# EAGLE library part MICROBIT-EDGE-CONNECTOR (library pimoroni-connectors)
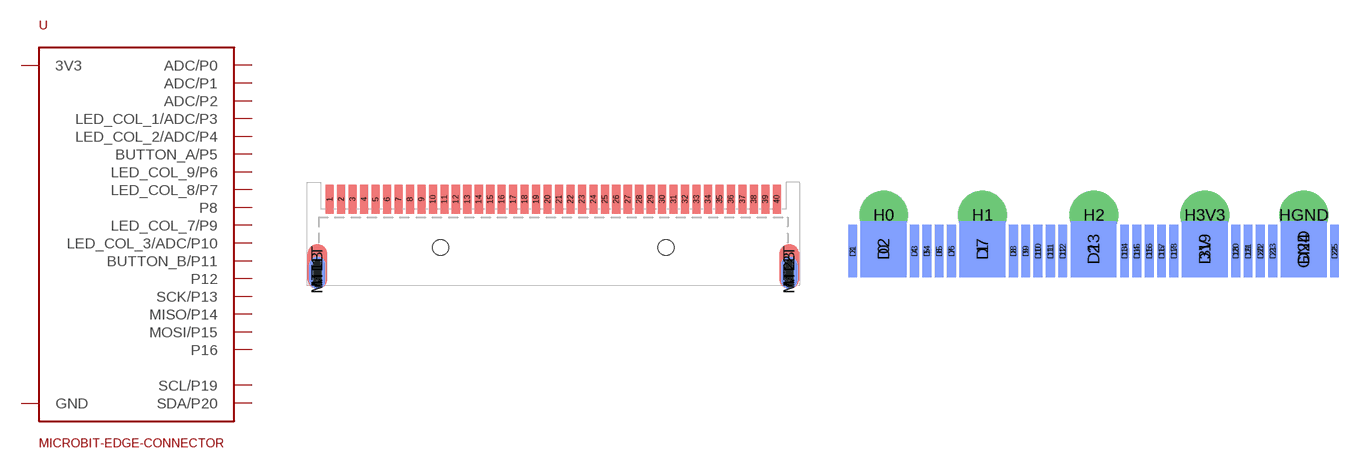
[diagram p13: symbol with the pads of MICROBIT-RIGHT-ANGLE-SMT; footprints MICROBIT-RIGHT-ANGLE-SMT, MICROBIT-EDGE-PCB]

Designator prefix -

## MICROBIT-EDGE-CONNECTORRA-SMD  [MICROBIT-RIGHT-ANGLE-SMT]
1  GND
2  GND
3  GND
4  GND
5  GND
6  GND
7  SDA/P20
8  SCL/P19
9  3V3
10  3V3
11  3V3
12  3V3
13  3V3
14  3V3
15  P16
16  MOSI/P15
17  MISO/P14
18  SCK/P13
19  ADC/P2
20  ADC/P2
21  ADC/P2
22  ADC/P2
23  P12
24  BUTTON_B/P11
25  LED_COL_3/ADC/P10
26  LED_COL_7/P9
27  P8
28  ADC/P1
29  ADC/P1
30  ADC/P1
31  ADC/P1
32  LED_COL_8/P7
33  LED_COL_9/P6
34  BUTTON_A/P5
35  LED_COL_2/ADC/P4
36  ADC/P0
37  ADC/P0
38  ADC/P0
39  ADC/P0
40  LED_COL_1/ADC/P3

## MICROBIT-EDGE-CONNECTOREDGE-PCB  [MICROBIT-EDGE-PCB]
0  ADC/P0
1  ADC/P1
2  ADC/P2
3  LED_COL_1/ADC/P3
3V  3V3
4  LED_COL_2/ADC/P4
5  BUTTON_A/P5
6  LED_COL_9/P6
7  LED_COL_8/P7
8  P8
9  LED_COL_7/P9
10  LED_COL_3/ADC/P10
11  BUTTON_B/P11
12  P12
13  SCK/P13
14  MISO/P14
15  MOSI/P15
16  P16
17  3V3
18  3V3
19  SCL/P19
20  SDA/P20
21  GND
22  GND
GND  GND
H0  ADC/P0
H1  ADC/P1
H2  ADC/P2
H3V3  3V3
HGND  GND

## Footprint MICROBIT-RIGHT-ANGLE-SMT (pad centres in mm)
smd 0.9 x 3.2: 1 -24.765,5.35; 2 -23.495,5.35; 3 -22.225,5.35; 4 -20.955,5.35; 5 -19.685,5.35; 6 -18.415,5.35; 7 -17.145,5.35; 8 -15.875,5.35; 9 -14.605,5.35; 10 -13.335,5.35; 11 -12.065,5.35; 12 -10.795,5.35; 13 -9.525,5.35; 14 -8.255,5.35; 15 -6.985,5.35; 16 -5.715,5.35; 17 -4.445,5.35; 18 -3.175,5.35; 19 -1.905,5.35; 20 -0.635,5.35; 21 0.635,5.35; 22 1.905,5.35; 23 3.175,5.35; 24 4.445,5.35; 25 5.715,5.35; 26 6.985,5.35; 27 8.255,5.35; 28 9.525,5.35; 29 10.795,5.35; 30 12.065,5.35; 31 13.335,5.35; 32 14.605,5.35; 33 15.875,5.35; 34 17.145,5.35; 35 18.415,5.35; 36 19.685,5.35; 37 20.955,5.35; 38 22.225,5.35; 39 23.495,5.35; 40 24.765,5.35
smd 1.8 x 3.6 bottom: MT1B -26.15,-2.8; MT2B 26.15,-2.8
smd 2.2 x 5: MT1T -26.15,-2.1; MT2T 26.15,-2.1
hole 1.75 at -12.5,0
hole 1.75 at 12.5,0

## Footprint MICROBIT-EDGE-PCB (pad centres in mm)
smd 4.71 x 5.8: 0 -21.584,2.9; 1 -11.425,2.9; 2 0.005,2.9; 3V 11.435,2.9; GND 21.596,2.9
smd 0.9 x 5.4: 3 -24.759,2.7; 4 -18.41,2.7; 5 -17.14,2.7; 6 -15.87,2.7; 7 -14.6,2.7; 8 -8.249,2.7; 9 -6.979,2.7; 10 -5.71,2.7; 11 -4.439,2.7; 12 -3.17,2.7; 13 3.18,2.7; 14 4.45,2.7; 15 5.721,2.7; 16 6.99,2.7; 17 8.261,2.7; 18 14.611,2.7; 19 15.88,2.7; 20 17.151,2.7; 21 18.421,2.7; 22 24.77,2.7
smd 0.9 x 5.4 bottom: D1 -24.759,2.7; D3 -18.41,2.7; D4 -17.14,2.7; D5 -15.87,2.7; D6 -14.6,2.7; D8 -8.249,2.7; D9 -6.979,2.7; D10 -5.71,2.7; D11 -4.439,2.7; D12 -3.17,2.7; D14 3.18,2.7; D15 4.45,2.7; D16 5.721,2.7; D17 6.99,2.7; D18 8.261,2.7; D20 14.611,2.7; D21 15.88,2.7; D22 17.151,2.7; D23 18.421,2.7; D25 24.77,2.7
smd 4.71 x 5.8 bottom: D2 -21.584,2.9; D7 -11.425,2.9; D13 0.005,2.9; D19 11.435,2.9; D24 21.596,2.9
drill 4 pad 5: H0 -21.579,6.42; H1 -11.43,6.42; H2 0.021,6.42; H3V3 11.421,6.42; HGND 21.62,6.42